# Altium footprint library devices.PcbLib: 4 footprints
Each footprint in its own frame and in the unit in brackets; x right, y up, seen from the top. Pads: shape width x height; smd on the part's side, far side on the other; paste and mask are expansions set on the pad; w line width, h text height; cw(c..) or ccw(c..) is an arc to the next point about the centre after c.
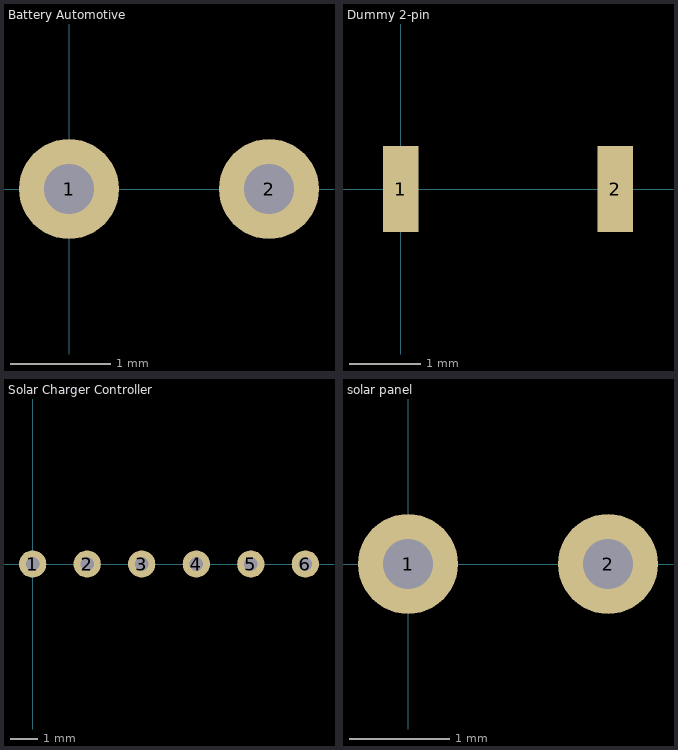
[diagram p0: the footprints below, top view; thin cyan lines are the x and y axes]

## Battery Automotive [mm]
pads (2):
  round 1 hole 0.5: 1(0,0) 2(2,0)

## Dummy 2-pin [mm]
pads (2):
  rect 0.5x1.2 all layers, no hole: 1(0,0) 2(3,0)

## Solar Charger Controller [mm] "dummy of controller pads"
pads (6):
  round 1 hole 0.5: 1(0,0) 2(2,0) 3(4,0) 4(6,0) 5(8,0) 6(10,0)

## solar panel [mm] "dummy"
pads (2):
  round 1 hole 0.5: 1(0,0) 2(2,0)